# EAGLE library part DMMT5401 (library Mes_Transistors)
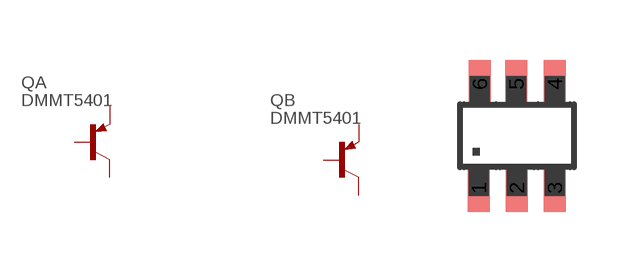
[diagram p0: symbol with the pads of SOT-26; footprint SOT-26]

Designator prefix Q; gates A=PNP B=PNP

## DMMT5401  [SOT-26]
1  A:C  pas
2  A:B  pas
3  B:B  pas
4  B:C  pas
5  B:E  pas
6  A:E  pas

## Footprint SOT-26 (pad centres in mm)
smd 0.55 x 1.2: 1 -0.58,-1.141; 2 0.37,-1.141; 3 1.32,-1.141; 4 1.32,1.459; 5 0.359,1.459; 6 -0.555,1.459